# EAGLE library part PIC24HJ64GP506 (library 00_microchip)
PIC24HJ64GP506 edit this description Auto generated by make-symbol-device-package-bsdl.ulp Rev. 25 Source: PIC24HJ64GP506.bsd
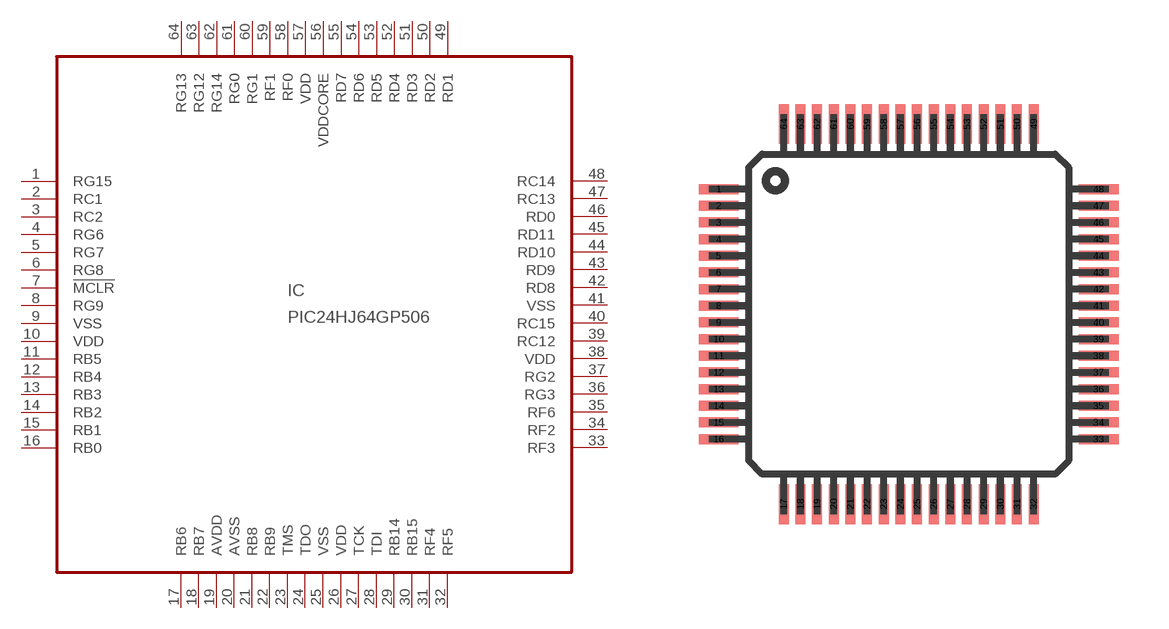
[diagram p119: symbol with the pads of TQFP64-10X10; footprint TQFP64-10X10]

Designator prefix IC

## PIC24HJ64GP506 (MPN: PIC24HJ64GP506A-I/PT; OC_FARNELL: 1146551; OC_NEWARK: 45P4882)  [TQFP64-10X10]
1  RG15
2  RC1
3  RC2
4  RG6
5  RG7
6  RG8
7  !MCLR
8  RG9
9  VSS  pwr
10  VDD  pwr
11  RB5
12  RB4
13  RB3
14  RB2
15  RB1
16  RB0
17  RB6
18  RB7
19  AVDD  pwr
20  AVSS  pwr
21  RB8
22  RB9
23  TMS  in
24  TDO  out
25  VSS  pwr
26  VDD  pwr
27  TCK  in
28  TDI  in
29  RB14
30  RB15
31  RF4
32  RF5
33  RF3
34  RF2
35  RF6
36  RG3
37  RG2
38  VDD  pwr
39  RC12
40  RC15
41  VSS  pwr
42  RD8
43  RD9
44  RD10
45  RD11
46  RD0
47  RC13
48  RC14
49  RD1
50  RD2
51  RD3
52  RD4
53  RD5
54  RD6
55  RD7
56  VDDCORE  pwr
57  VDD  pwr
58  RF0
59  RF1
60  RG1
61  RG0
62  RG14
63  RG12
64  RG13

## Footprint TQFP64-10X10 (pad centres in mm)
Thin Quad Flat Pack package type TQ
smd 1.2 x 0.3: 1 -5.7,3.75; 2 -5.7,3.25; 3 -5.7,2.75; 4 -5.7,2.25; 5 -5.7,1.75; 6 -5.7,1.25; 7 -5.7,0.75; 8 -5.7,0.25; 9 -5.7,-0.25; 10 -5.7,-0.75; 11 -5.7,-1.25; 12 -5.7,-1.75; 13 -5.7,-2.25; 14 -5.7,-2.75; 15 -5.7,-3.25; 16 -5.7,-3.75; 33 5.7,-3.75; 34 5.7,-3.25; 35 5.7,-2.75; 36 5.7,-2.25; 37 5.7,-1.75; 38 5.7,-1.25; 39 5.7,-0.75; 40 5.7,-0.25; 41 5.7,0.25; 42 5.7,0.75; 43 5.7,1.25; 44 5.7,1.75; 45 5.7,2.25; 46 5.7,2.75; 47 5.7,3.25; 48 5.7,3.75
smd 0.3 x 1.2: 17 -3.75,-5.7; 18 -3.25,-5.7; 19 -2.75,-5.7; 20 -2.25,-5.7; 21 -1.75,-5.7; 22 -1.25,-5.7; 23 -0.75,-5.7; 24 -0.25,-5.7; 25 0.25,-5.7; 26 0.75,-5.7; 27 1.25,-5.7; 28 1.75,-5.7; 29 2.25,-5.7; 30 2.75,-5.7; 31 3.25,-5.7; 32 3.75,-5.7; 49 3.75,5.7; 50 3.25,5.7; 51 2.75,5.7; 52 2.25,5.7; 53 1.75,5.7; 54 1.25,5.7; 55 0.75,5.7; 56 0.25,5.7; 57 -0.25,5.7; 58 -0.75,5.7; 59 -1.25,5.7; 60 -1.75,5.7; 61 -2.25,5.7; 62 -2.75,5.7; 63 -3.25,5.7; 64 -3.75,5.7